# EAGLE library part HIROSE_DF40C-30DS-0_4V_51 (library Upverter Library)
Board-to-Board Connector with 0.4-mm Pitch, 1.5 - 4.0-mm Height - DF40 Series ( ELECTRIC)
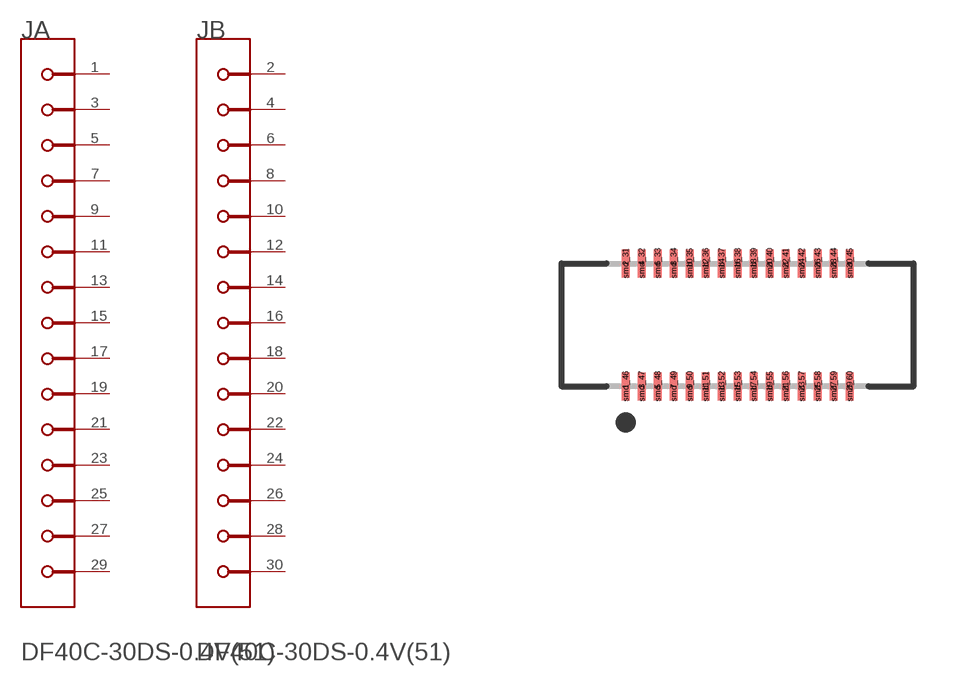
[diagram p0: symbol with the pads of HIROSE_DF40C-30DS-0_4V_51_0; footprint HIROSE_DF40C-30DS-0_4V_51_0]

Designator prefix J; gates A=HIROSE_DF40C-30DS-0_4V_51_0_0 B=HIROSE_DF40C-30DS-0_4V_51_0_1

## HIROSE_DF40C-30DS-0_4V_51HIROSE_DF40C-30DS-0_4V_51_0_0 (MF: Hirose; MPN: DF40C-30DS-0.4V(51); automotive: No; centroid_not_specified: No; conn_gender: Female; conn_orientation: Vertical; contact_material: Gold,Nickel; current_rating: 0.3A; datasheet: https://www.hirose.com/en/product/document?clcode=CL0684-4007-4-51&productname=DF40C-30DS-0.4V(51)&series=DF40&documenttype=2DDrawing&lang=en&documentid=0001001229; device_class_L1: Connectors; device_class_L2: Headers and Wire Housings; device_class_L3: unset; digikey_description: CONN RCPT 30POS SMD GOLD; digikey_part_number: H11623CT-ND; footprint_variant_name_0: Recommended_Land_Pattern; height: 1.65mm; is_female: yes; lead_free: Yes; mfg_package_ident: 0; mfg_package_ident_date: 0; mfg_package_ident_rev: 0; mouser_description: Board to Board & Mezzanine Connectors 30P SMT RECEPTACLE NO FITTING, NO BOSS; mouser_part_number: 798-DF40C30DS0.4V51; number_of_contacts: 30; number_of_rows: 2; package: HDR30; pitch: 0.4mm; prefix: J; rohs: Yes; standoff_height: 0mm; temperature_range_high: +85°C; temperature_range_low: -35°C; verification_version: 0.0.0.3; voltage_rating: 30V)  [HIROSE_DF40C-30DS-0_4V_51_0]
1  A:1  pas
2  B:2  pas
3  A:3  pas
4  B:4  pas
5  A:5  pas
6  B:6  pas
7  A:7  pas
8  B:8  pas
9  A:9  pas
10  B:10  pas
11  A:11  pas
12  B:12  pas
13  A:13  pas
14  B:14  pas
15  A:15  pas
16  B:16  pas
17  A:17  pas
18  B:18  pas
19  A:19  pas
20  B:20  pas
21  A:21  pas
22  B:22  pas
23  A:23  pas
24  B:24  pas
25  A:25  pas
26  B:26  pas
27  A:27  pas
28  B:28  pas
29  A:29  pas
30  B:30  pas

## Footprint HIROSE_DF40C-30DS-0_4V_51_0 (pad centres in mm)
Board-to-Board Connector with 0.4-mm Pitch, 1.5 - 4.0-mm Height - DF40 Series ( ELECTRIC)
smd 0.2 x 0.7: 1 -2.8,-1.54; 2 -2.8,1.54; 3 -2.4,-1.54; 4 -2.4,1.54; 5 -2,-1.54; 6 -2,1.54; 7 -1.6,-1.54; 8 -1.6,1.54; 9 -1.2,-1.54; 10 -1.2,1.54; 11 -0.8,-1.54; 12 -0.8,1.54; 13 -0.4,-1.54; 14 -0.4,1.54; 15 0,-1.54; 16 0,1.54; 17 0.4,-1.54; 18 0.4,1.54; 19 0.8,-1.54; 20 0.8,1.54; 21 1.2,-1.54; 22 1.2,1.54; 23 1.6,-1.54; 24 1.6,1.54; 25 2,-1.54; 26 2,1.54; 27 2.4,-1.54; 28 2.4,1.54; 29 2.8,-1.54; 30 2.8,1.54
smd 0.16 x 0.7: smd_31 -2.8,1.54; smd_32 -2.4,1.54; smd_33 -2,1.54; smd_34 -1.6,1.54; smd_35 -1.2,1.54; smd_36 -0.8,1.54; smd_37 -0.4,1.54; smd_38 0,1.54; smd_39 0.4,1.54; smd_40 0.8,1.54; smd_41 1.2,1.54; smd_42 1.6,1.54; smd_43 2,1.54; smd_44 2.4,1.54; smd_45 2.8,1.54; smd_46 -2.8,-1.54; smd_47 -2.4,-1.54; smd_48 -2,-1.54; smd_49 -1.6,-1.54; smd_50 -1.2,-1.54; smd_51 -0.8,-1.54; smd_52 -0.4,-1.54; smd_53 0,-1.54; smd_54 0.4,-1.54; smd_55 0.8,-1.54; smd_56 1.2,-1.54; smd_57 1.6,-1.54; smd_58 2,-1.54; smd_59 2.4,-1.54; smd_60 2.8,-1.54